# Altium schematic symbol library Graduation_Design.SCHLIB: 30 symbols
Pins are listed as number, name and electrical type; pins without a type are passive.

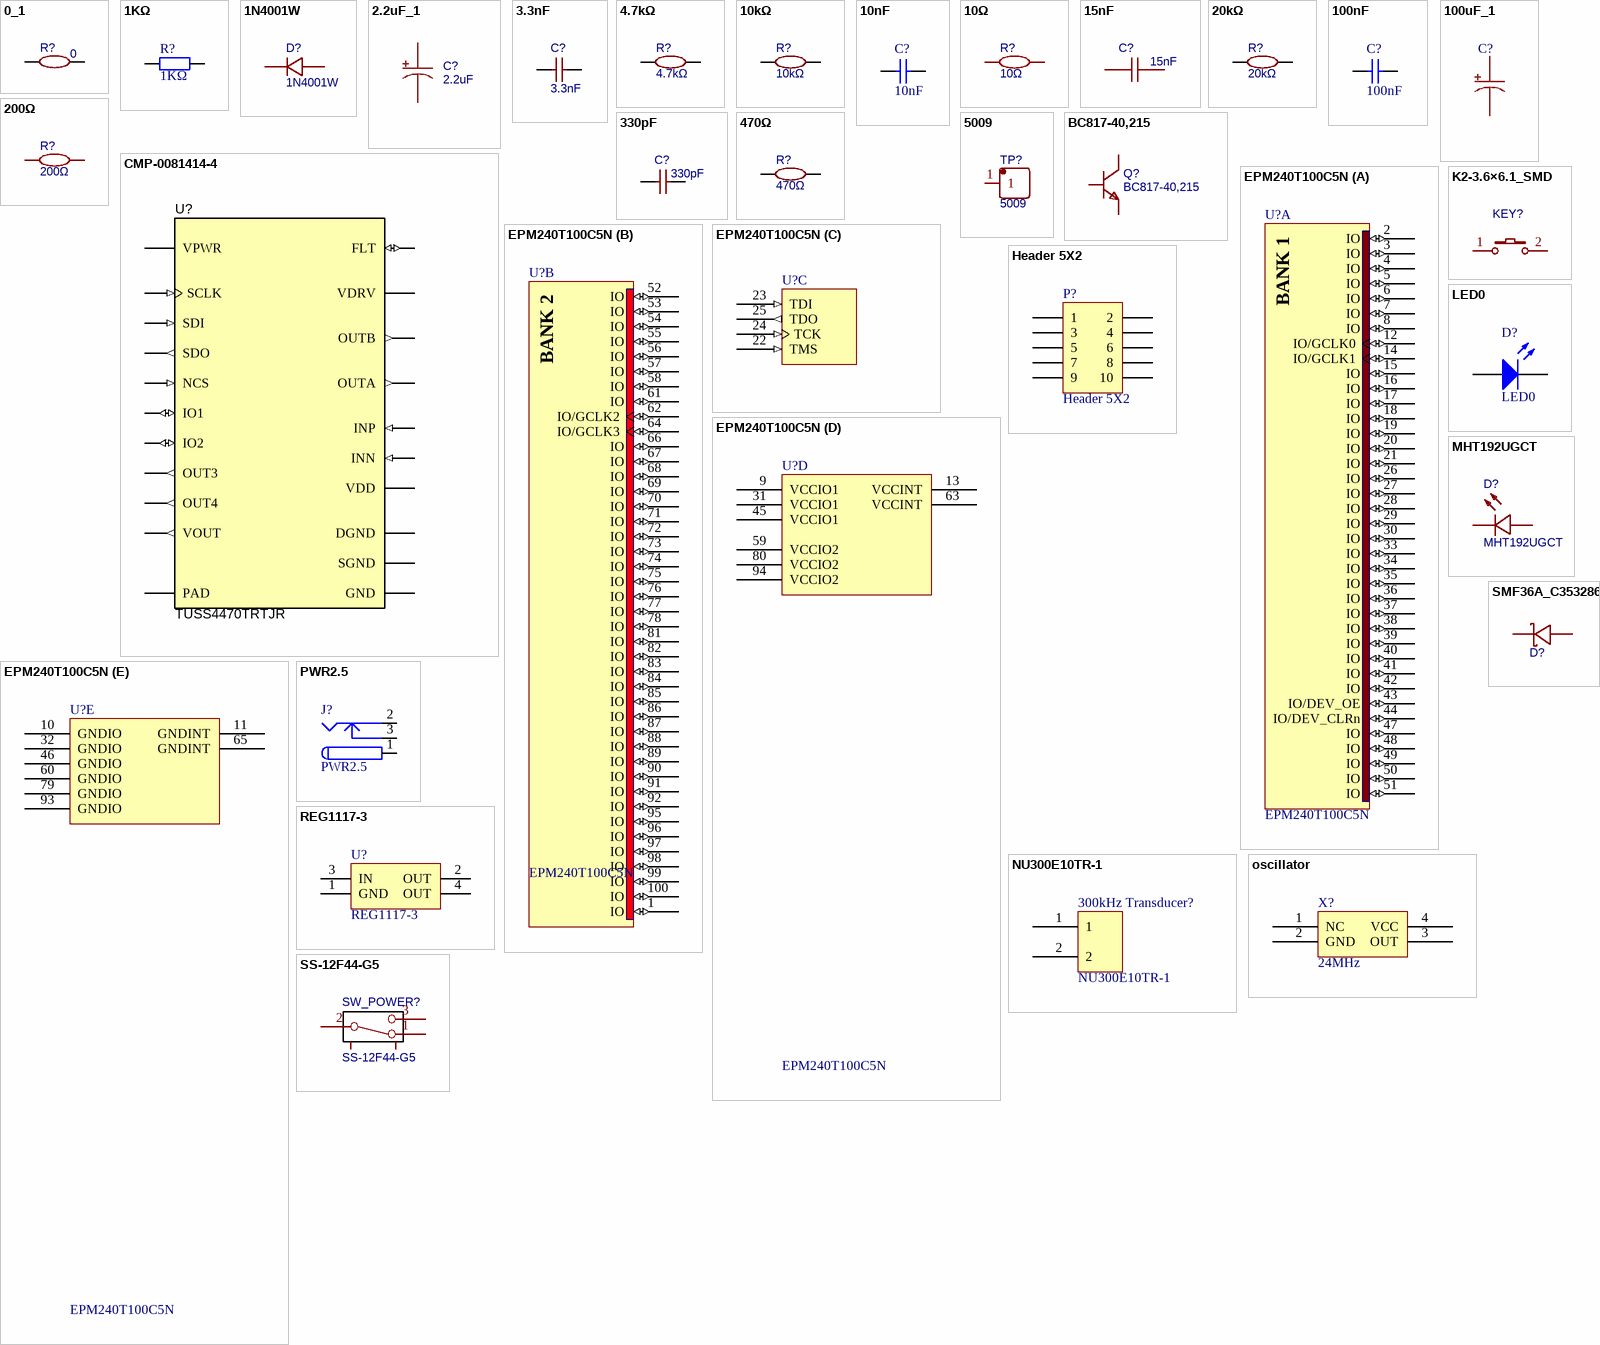
[diagram p0: symbols 0_1 to SS-12F44-G5]

## 0_1
designator R?, comment 0
BOM_Manufacturer: YAGEO; BOM_Manufacturer Part: RC0603JR-070RL; nameAlias: Resistance (Ohms); Resistance: 0Ω; BOM_Supplier: LCSC; BOM_Supplier Part: C95177; BOM_JLCPCB Part Class: Extended Part; spicePre: R; spiceSymbolName: RC0603JR-070RL
footprint R0603
pins: 1, 2

## 1KΩ
designator R?, comment value 1KΩ  (hidden comment: Res2)
Resistor; Published: 8-Jun-2000; LatestRevisionDate: 17-Jul-2002; LatestRevisionNote: Re-released for DXP Platform.; PackageReference: AXIAL-0.4; Publisher: Altium Limited
simulation model RESISTOR (Resistor)
signal-integrity model Res
footprint R0603 (Footprint not found)
pins: 1, 2

## 1N4001W
designator D?
BOM_Manufacturer: Jingdao; Contributor: LCSC; BOM_Supplier Part: C162732; BOM_Supplier: LCSC; BOM_Manufacturer Part: 1N4001W; BOM_JLCPCB Part Class: Extended Part; spicePre: D; spiceSymbolName: 1N4001W
footprint SOD-123F_L2.8-W1.8-LS3.7-RD
pins: 1 C, 2 A

## 2.2uF_1
designator C?, comment 2.2uF
BOM_Manufacturer: KEMET; BOM_Manufacturer Part: T491A225K035AT; nameAlias: Capacitance; Contributor: LCSC; BOM_Supplier: LCSC; BOM_Supplier Part: C122264; BOM_JLCPCB Part Class: Extended Part; spicePre: C; spiceSymbolName: T491A225K035AT
footprint CAP-SMD_L3.2-W1.6-RD
pins: 1, 2

## 3.3nF
designator C?
BOM_Manufacturer Part: GRM1885C1H332JA01D; BOM_Manufacturer: MuRata; nameAlias: Capacitance; BOM_Supplier: LCSC; BOM_Supplier Part: C77036; BOM_JLCPCB Part Class: Extended Part; spicePre: C; spiceSymbolName: GRM1885C1H332JA01D
footprint C0603
pins: 1, 2

## 4.7kΩ
designator R?
BOM_Manufacturer: UniOhm; BOM_Manufacturer Part: 0603WAF4701T5E; nameAlias: Resistance; Resistance (Ohms): 4.7K; BOM_Supplier: LCSC; BOM_Supplier Part: C23162; BOM_JLCPCB Part Class: Basic Part; spicePre: R; spiceSymbolName: 0603WAF4701T5E
footprint R0603
pins: 1, 2

## 10kΩ
designator R?
BOM_Manufacturer: UniOhm; BOM_Manufacturer Part: 0603WAF1002T5E; nameAlias: Resistance; Resistance (Ohms): 10K; BOM_Supplier: LCSC; BOM_Supplier Part: C25804; BOM_JLCPCB Part Class: Basic Part; spicePre: R; spiceSymbolName: 0603WAF1002T5E
footprint R0603
pins: 1, 2

## 10nF
designator C?, comment value 10nF  (hidden comment: Cap)
Capacitor; Published: 8-Jun-2000; LatestRevisionDate: 17-Jul-2002; LatestRevisionNote: Re-released for DXP Platform.; PackageReference: RAD-0.3; Publisher: Altium Limited
simulation model CAP (Capacitor)
signal-integrity model Cap
footprint C0603 (Footprint not found)
pins: 1, 2

## 10Ω
designator R?
BOM_Manufacturer: PANASONIC; BOM_Manufacturer Part: ERJPA3J100V; Resistance (Ohms): 10; nameAlias: Resistance; Contributor: LCSC; BOM_Supplier: LCSC; BOM_Supplier Part: C441879; BOM_JLCPCB Part Class: Extended Part; spicePre: R; spiceSymbolName: ERJPA3J100V
footprint R0603
pins: 1, 2

## 15nF
designator C?
BOM_Manufacturer: YAGEO; BOM_Manufacturer Part: CC0603JRX7R9BB153; nameAlias: Capacitance; Contributor: LCSC; BOM_Supplier: LCSC; BOM_Supplier Part: C519550; BOM_JLCPCB Part Class: Extended Part; spicePre: C; spiceSymbolName: CC0603JRX7R9BB153
footprint C0603
pins: 1, 2

## 20kΩ
designator R?
BOM_Manufacturer: UniOhm; BOM_Manufacturer Part: 0603WAF2002T5E; nameAlias: Resistance; Resistance (Ohms): 20K; BOM_Supplier: LCSC; BOM_Supplier Part: C4184; BOM_JLCPCB Part Class: Basic Part; spicePre: R; spiceSymbolName: 0603WAF2002T5E
footprint R0603
pins: 1, 2

## 100nF
designator C?, comment value 100nF  (hidden comment: Cap)
Capacitor; Published: 8-Jun-2000; LatestRevisionDate: 17-Jul-2002; LatestRevisionNote: Re-released for DXP Platform.; PackageReference: RAD-0.3; Publisher: Altium Limited
simulation model CAP (Capacitor)
signal-integrity model Cap
footprint C0603 (Footprint not found)
pins: 1, 2

## 100uF_1
designator C?, comment Cap Pol1  (value not drawn)
Polarized Capacitor (Radial); Published: 8-Jun-2000; LatestRevisionDate: 17-Jul-2002; LatestRevisionNote: Re-released for DXP Platform.; PackageReference: RB7.6-15; Publisher: Altium Limited
simulation model CAP (Capacitor)
signal-integrity model Cap Pol
footprint CAP-SMD_L3.2-W1.6-RD (Footprint not found)
pins: 1, 2
1 alternate drawing of the same symbol

## 200Ω
designator R?
BOM_Manufacturer: PANASONIC; BOM_Manufacturer Part: ERJ-PA3F2000V; Resistance (Ohms): 200; nameAlias: Resistance; Contributor: LCSC; BOM_Supplier: LCSC; BOM_Supplier Part: C254528; BOM_JLCPCB Part Class: Extended Part; spicePre: R; spiceSymbolName: ERJ-PA3F2000V
footprint R0603
pins: 1, 2

## 330pF
designator C?
BOM_Manufacturer Part: CL10C331JB8NNNC; BOM_Manufacturer: SAMSUNG; nameAlias: Capacitance; BOM_Supplier: LCSC; BOM_Supplier Part: C1664; BOM_JLCPCB Part Class: Basic Part; spicePre: C; spiceSymbolName: CL10C331JB8NNNC
footprint C0603
pins: 1, 2

## 470Ω
designator R?
BOM_Manufacturer: UniOhm; BOM_Manufacturer Part: 0603WAJ0471T5E; nameAlias: Resistance; Resistance (Ohms): 470; BOM_Supplier: LCSC; BOM_Supplier Part: C25241; BOM_JLCPCB Part Class: Extended Part; spicePre: R; spiceSymbolName: 0603WAJ0471T5E
footprint R0603
pins: 1, 2

## 5009
designator TP?
BOM_Manufacturer: Keystone; Contributor: LCSC; BOM_Supplier: LCSC; BOM_Supplier Part: C238126; BOM_Manufacturer Part: 5009; BOM_JLCPCB Part Class: Extended Part; spicePre: U; spiceSymbolName: 5009
footprint TEST-TH_BD3.18-P1.93
pins: 1

## BC817-40,215
designator Q?
BOM_Manufacturer: Nexperia; BOM_Supplier: LCSC; BOM_Manufacturer Part: BC817-40,215; BOM_Supplier Part: C52801; BOM_JLCPCB Part Class: Extended Part; spicePre: Q; spiceSymbolName: BC817-40,215
footprint SOT-23-3_L2.9-W1.6-P1.90-LS2.8-BR
pins: 1, 2, 3

## CMP-0081414-4
designator U?, comment TUSS4470TRTJR
Ultrasonic Sensor Signal Conditioner IC for Directly; Manufacturer: Texas Instruments; Alternate PartNumber: PGA44801RTJT; AEC Qualified: N; SizeAreaWB_mm2: 25; SizeZ_mm: 0.8; SizeX_mm: 4; AEC Category: Q200; SizeArea_mm2: 16; ComponentLink3URL: http://www.ti.com/product/pga448/datasheet; ComponentLink1URL: http://www.ti.com/lit/ds/symlink/pga448.pdf; MountType: SMT; ComponentLink2Description: Product Folder; ComponentLink3Description: Online Datasheet; ComponentLink2URL: http://www.ti.com/product/pga448; PackageDescription: WQFN-20; SizeY_mm: 4; ComponentLink1Description: Datasheet Link; PackageReference: RTJ0020J; Alternate Manufacturer: Texas Instruments; CompType: IC; PartNumber: TUSS4470TRTJR
footprint QFN-20_L4.0-W4.0-P0.50-TL-EP2.7
pins: 1 OUT3 (out), 2 DGND (power), 3 NCS (in), 4 SCLK (in), 5 SDI (in), 6 SDO (out), 7 IO1 (io), 8 IO2 (io), 9 VOUT (out), 10 VDD (power), 11 INN (in), 12 INP (in), 13 SGND (power), 14 GND (power), 15 OUTA (out), 16 OUTB (out), 17 VDRV (power), 18 FLT (io), 19 OUT4 (out), 20 VPWR (power), 21 PAD

## EPM240T100C5N
designator U?
MAX II 3.3/2.5V CPLD, 80 IOs, 240 Logic Elements, 100-Pin Plastic TQFP, Commercial Temperature, Speed Grade 5, Pb-Free; Note: Each set of VCCIO pins can be connected to 3.3V, 2.5V, 1.8V, or 1.5V.; Note: All VCCINT pins must be connected to either 3.3V or 2.5V (but not a combination of both).; Published: 4-Mar-2005; LatestRevisionDate: 13-Apr-2006; LatestRevisionNote: IPC-7351 Footprint Added.; DatasheetVersion: ver1.8, Jul-2006; PackageVersion: ver15.1, May-2008; PackageReference: TQFP100; Publisher: Altium Limited; PackageDescription: 100-Pin Plastic Thin Quad Flat Pack (TQFP100) - Wire Bond; Supplier 1: Digi-Key; Supplier Part Number 1: 544-1964-ND; Supplier 2: Farnell; Supplier Part Number 2: 1662268; Supplier 3: Farnell; Supplier Part Number 3: 1453503; Code_JEDEC: MS-026-AED; ComponentLink1Description: Manufacturer Link; ComponentLink1URL: http://www.altera.com/products/devices/cpld/max2/mx2-index.jsp; ComponentLink2Description: Handbook; ComponentLink2URL: http://www.altera.com/literature/hb/max2/max2_mii5v1.pdf; ComponentLink3Description: Packaging Specification; ComponentLink3URL: http://www.altera.com/literature/ds/dspkg.pdf
3D model EPM240-TQFP100 (100-Pin Plastic Thin Quad Flat Pack (TQFP100) - Wire Bond)
footprint TQFP-100_L14.0-W14.0-P0.50-LS16.0-BL
part A pins: 2 IO (io), 3 IO (io), 4 IO (io), 5 IO (io), 6 IO (io), 7 IO (io), 8 IO (io), 12 IO/GCLK0 (io), 14 IO/GCLK1 (io), 15 IO (io), 16 IO (io), 17 IO (io), 18 IO (io), 19 IO (io), 20 IO (io), 21 IO (io), 26 IO (io), 27 IO (io), 28 IO (io), 29 IO (io), 30 IO (io), 33 IO (io), 34 IO (io), 35 IO (io), 36 IO (io), 37 IO (io), 38 IO (io), 39 IO (io), 40 IO (io), 41 IO (io), 42 IO (io), 43 IO/DEV_OE (io), 44 IO/DEV_CLRn (io), 47 IO (io), 48 IO (io), 49 IO (io), 50 IO (io), 51 IO (io)
part B pins: 1 IO (io), 52 IO (io), 53 IO (io), 54 IO (io), 55 IO (io), 56 IO (io), 57 IO (io), 58 IO (io), 61 IO (io), 62 IO/GCLK2 (io), 64 IO/GCLK3 (io), 66 IO (io), 67 IO (io), 68 IO (io), 69 IO (io), 70 IO (io), 71 IO (io), 72 IO (io), 73 IO (io), 74 IO (io), 75 IO (io), 76 IO (io), 77 IO (io), 78 IO (io), 81 IO (io), 82 IO (io), 83 IO (io), 84 IO (io), 85 IO (io), 86 IO (io), 87 IO (io), 88 IO (io), 89 IO (io), 90 IO (io), 91 IO (io), 92 IO (io), 95 IO (io), 96 IO (io), 97 IO (io), 98 IO (io), 99 IO (io), 100 IO (io)
part C pins: 22 TMS (in), 23 TDI (in), 24 TCK (in), 25 TDO (out)
part D pins: 9 VCCIO1 (power), 13 VCCINT (power), 31 VCCIO1 (power), 45 VCCIO1 (power), 59 VCCIO2 (power), 63 VCCINT (power), 80 VCCIO2 (power), 94 VCCIO2 (power)
part E pins: 10 GNDIO (power), 11 GNDINT (power), 32 GNDIO (power), 46 GNDIO (power), 60 GNDIO (power), 65 GNDINT (power), 79 GNDIO (power), 93 GNDIO (power)
part A text: BANK 1
part B text: BANK 2

## Header 5X2
designator P?
Header, 5-Pin, Dual row; LatestRevisionDate: 17-Jul-2002; LatestRevisionNote: Re-released for DXP Platform.; Publisher: Altium Limited
footprint HDR2X5 (Connector; Header; 5x2 Position)
signal-integrity model Connector
pins: 1, 2, 3, 4, 5, 6, 7, 8, 9, 10

## K2-3.6×6.1_SMD
designator KEY?  (value not drawn)
BOM_Manufacturer Part: K2-1107ST-A4SW-06; Contributor: LCEDA_Lib; 制造商: 韩国韩荣; BOM_Supplier Part: C118141; BOM_Supplier: LCSC; spicePre: K; spiceSymbolName: K2-3.6×6.1_SMD
footprint KEY-SMD_2P-L6.2-W3.6-LS8.0
pins: 1, 2

## LED0
designator D?
Typical INFRARED GaAs LED; Published: 8-Jun-2000; LatestRevisionDate: 08-Jul-2005; LatestRevisionNote: Mech Layer 1 removed.; PackageReference: LED-0; Publisher: Altium Limited
simulation model LED0 (Diode)
footprint LED0603-RD_RED (Footprint not found)
pins: 1 A, 2 K

## MHT192UGCT
designator D?
BOM_Manufacturer: MEIHUA; Contributor: LCSC; BOM_Supplier: LCSC; BOM_Supplier Part: C389519; BOM_Manufacturer Part: MHT192UGCT; BOM_JLCPCB Part Class: Extended Part; spicePre: L; spiceSymbolName: MHT192UGCT
footprint LED0603-RD_GREEN
pins: 1 -, 2 +

## NU300E10TR-1
designator 300kHz Transducer?
footprint NU300E10TR-1
pins: 1, 2

## oscillator
designator X?, comment 24MHz
footprint OSC-SMD_4P-L7.0-W5.0-BL_SIT1602 (Footprint not found)
pins: 1 NC, 2 GND, 3 OUT, 4 VCC

## PWR2.5
designator J?
Low Voltage Power Supply Connector; Published: 17-Dec-2003; DatasheetDocument: 09-May-2002; Publisher: Altium Limited; ComponentLink1Description: Manufacturer Link; ComponentLink1URL: http://domino.kycon.com/internet/Products.html
footprint KLD-0202 (DC Power Jack, 2.5mm, KLD Series, PCB Mount)
signal-integrity model Connector
pins: 1 (power), 1A (power), 1B (power), 2 (power), 2A (power), 2B (power), 3 (power), 3A (power), 3B (power)

## REG1117-3
designator U?
800mA Low Dropout Positive Regulator Fixed 2.85V,3V,3.3V and 5V; Published: 8-Jun-2000; LatestRevisionDate: 17-Jul-2002; LatestRevisionNote: Re-released for DXP Platform.; DatasheetVersion: 1994; PackageVersion: revC; PackageReference: ZZ311; Publisher: Altium Limited; PackageDescription: SOT-223/SC-73; 4 Leads; Body 6.7 x 7.3 mm, inc. leads (LxW max); ComponentLink1Description: Manufacturer Link; ComponentLink1URL: http://www.ti.com/; ComponentLink2Description: Datasheet; ComponentLink2URL: http://www-s.ti.com/sc/ds/reg1117.pdf
footprint ZZ311
pins: 1 GND (power), 2 OUT (power), 3 IN (power), 4 OUT (power)

## SMF36A_C353286
designator D?  (value not drawn)
BOM_Manufacturer: Shandong Jingdao Microelectronics; BOM_Manufacturer Part: SMF36A; Contributor: LCSC; BOM_Supplier: LCSC; BOM_Supplier Part: C353286; BOM_JLCPCB Part Class: Extended Part; spicePre: D; spiceSymbolName: SMF36A_C353286
footprint SOD-123FL_L2.7-W1.8-LS3.8-RD
pins: 1 K, 2 A

## SS-12F44-G5
designator SW_POWER?
BOM_Manufacturer: Rectangular Connectors - Contacts; Contributor: LCSC; BOM_Supplier: LCSC; BOM_Supplier Part: C136718; BOM_Manufacturer Part: SS-12F44-G5; spicePre: S; spiceSymbolName: SS-12F44-G5
footprint SW-TH_SS-12F44-G5
pins: 1, 2, 3, 4, 5